# Altium footprint library STM32_Nucleo.PcbLib: 1 footprints
Each footprint in its own frame and in the unit in brackets; x right, y up, seen from the top. Pads: shape width x height; smd on the part's side, far side on the other; paste and mask are expansions set on the pad; w line width, h text height; cw(c..) or ccw(c..) is an arc to the next point about the centre after c.
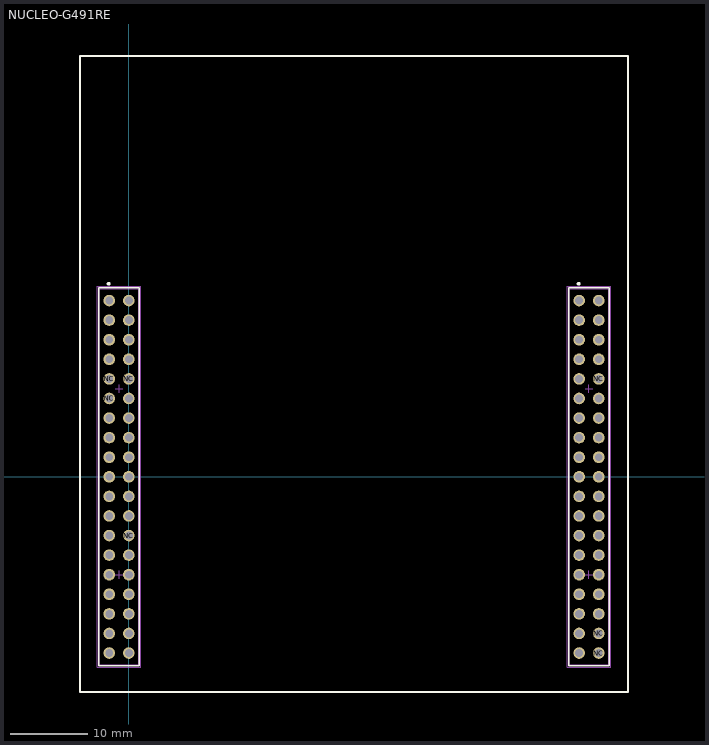
[diagram p0: the footprint, top view; thin cyan lines are the x and y axes]

## NUCLEO-G491RE [mm]
pads (76):
  round 1.5 hole 1.02: 5V_USB_CHGR(60.96,15.24) +3V3(0,5.08) +5V(0,2.54) AGND(60.96,-15.24) AVDD(58.42,15.24) E5V(0,17.78) GND(-2.54,0) GND(0,-2.54) GND(0,0) GND(0,15.24) GND(58.42,12.7) GND(60.96,0) IOREF(0,10.16) NC(-2.54,10.16) NC(-2.54,12.7) NC(0,-7.62) NC(0,12.7) NC(60.96,-22.86) NC(60.96,-20.32) NC(60.96,12.7) NRST(0,7.62) PA0(0,-10.16) PA1(0,-12.7) PA4(0,-15.24) PA5(58.42,10.16) PA6(58.42,7.62) PA7(58.42,5.08) PA8(58.42,-5.08) PA9(58.42,-2.54) PA10(58.42,-17.78) PA11(60.96,7.62) PA12(60.96,10.16) PA13(-2.54,7.62) PA14(-2.54,5.08) PA15(-2.54,2.54) PB0(0,-17.78) PB1(60.96,-5.08) PB2(60.96,-2.54) PB3(58.42,-15.24) PB4(58.42,-10.16) PB5(58.42,-12.7) PB6(58.42,2.54) PB7(-2.54,-2.54) PB8(-2.54,15.24) PB8(58.42,20.32) PB9(58.42,17.78) PB10(58.42,-7.62) PB11(60.96,2.54) PB12(60.96,5.08) PB13(60.96,-12.7) PB14(60.96,-10.16) PB15(60.96,-7.62) PC0/PA15(0,-22.86) PC1/PB9(0,-20.32) PC2(-2.54,-20.32) PC3(-2.54,-22.86) PC4(60.96,-17.78) PC4/PA2(58.42,-20.32) PC5(60.96,17.78) PC5/PA3(58.42,-22.86) PC6(60.96,20.32) PC7(58.42,0) PC8(60.96,22.86) PC9(58.42,22.86) PC10(-2.54,22.86) PC11(0,22.86) PC12(-2.54,20.32) PC13(-2.54,-5.08) PC14(-2.54,-7.62) PC15(-2.54,-10.16) PD2(0,20.32) PF0(-2.54,-12.7) PF1(-2.54,-15.24) VBAT(-2.54,-17.78) VDD(-2.54,17.78) VIN(0,-5.08)
Top Overlay:
  circle w0.25: c-2.615,25.039 r0.125
  circle w0.25: c58.345,25.039 r0.125
  lines w0.2: -3.885,-1.391 -3.885,24.505 1.345,24.505 1.345,-0.895 1.345,-24.505 -3.885,-24.505 -3.885,-0.895 ; 57.075,-1.391 57.075,24.505 62.305,24.505 62.305,-0.895 62.305,-24.505 57.075,-24.505 57.075,-0.895
  lines w0.254: -6.35,-27.94 64.77,-27.94 64.77,54.61 -6.35,54.61 -6.35,-27.94
Top Courtyard:
  lines w0.05: -4.085,-1.845 -4.085,24.705 1.545,24.705 1.545,-1.337 ; -4.085,-0.695 -4.085,-24.705 1.545,-24.705 1.545,-0.695 ; 56.875,-1.845 56.875,24.705 62.505,24.705 62.505,-1.337 ; 56.875,-0.695 56.875,-24.705 62.505,-24.705 62.505,-0.695
Top Component Outline:
  lines w0.1: -3.81,-1.52 -3.81,24.38 1.27,24.38 1.27,-1.52 ; -3.81,-1.02 -3.81,-24.38 1.27,-24.38 1.27,-1.02 ; 57.15,-1.52 57.15,24.38 62.23,24.38 62.23,-1.52 ; 57.15,-1.02 57.15,-24.38 62.23,-24.38 62.23,-1.02
Top Component Center:
  lines w0.05: -1.77,-12.7 -0.77,-12.7 ; -1.77,11.43 -0.77,11.43 ; -1.27,-13.2 -1.27,-12.2 ; -1.27,10.93 -1.27,11.93 ; 59.19,-12.7 60.19,-12.7 ; 59.19,11.43 60.19,11.43 ; 59.69,-13.2 59.69,-12.2 ; 59.69,10.93 59.69,11.93
3D body "61301821821.stp": height 8.45, standoff -3.05, extent -3.81,-24.38 1.27,-1.02
3D body "61302021821.stp": height 8.45, standoff -3.05, extent -3.828,-1.522 1.252,24.378
3D body "61301821821.stp": height 8.45, standoff -3.05, extent 57.15,-24.38 62.23,-1.02
3D body "61302021821.stp": height 8.45, standoff -3.05, extent 57.132,-1.522 62.212,24.378